# Altium footprint library PcbLib1.PcbLib: 1 footprints
Each footprint in its own frame and in the unit in brackets; x right, y up, seen from the top. Pads: shape width x height; smd on the part's side, far side on the other; paste and mask are expansions set on the pad; w line width, h text height; cw(c..) or ccw(c..) is an arc to the next point about the centre after c.
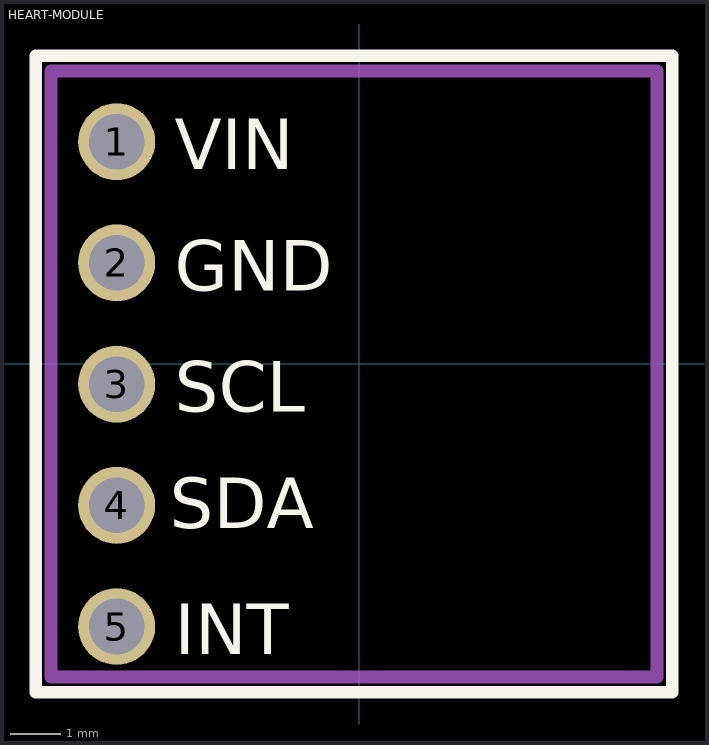
[diagram p0: the footprint, top view; thin cyan lines are the x and y axes]

## HEART-MODULE [mm] "High-Sensitivity Pulse Oximeter , temperature and Heart-Rate ( ECG ) Biosensor for Fitness & Healthcare"
pads (5):
  round 1.524 hole 1.1: 1(-4.8,4.4) 2(-4.8,2) 3(-4.8,-0.4) 4(-4.8,-2.8) 5(-4.8,-5.2)
Top Overlay:
  lines w0.254: -6.4,-6.5 6.2,-6.5 6.2,6.1 -6.4,6.1 -6.4,-6.5
  text "SCL" at -3.65,-0.95 h1
  text "GND" at -3.65,1.45 h1
  text "VIN" at -3.65,3.85 h1
  text "INT" at -3.65,-5.75 h1
  text "SDA" at -3.75,-3.25 h1
Mechanical 1:
  lines w0.254: -6.1,-6.2 5.9,-6.2 5.9,5.8 -6.1,5.8 -6.1,-6.2
3D body "MAX30102.SLDPRT": height 1.61, standoff -0.23, extent -6.1,-6.2 5.9,5.8